# EAGLE library part WG240128B (library glcd_winstar_240x128_wg240128b)
GRAFIC LCD WINSTAR MODEL:WG240128B-TMI-VZ BACKLIGHT LED Number of Dots: [240 ×128 ]____ Module dimension144.0×104.0×14.3(MAX)mm___ View area: 114.0×64.0mm___ Active area: 107.98×57.58mm___ Character size: (L)0.43×(W)0.43 mm___ Character pitch: (L)0.45×(W)0.45mm___
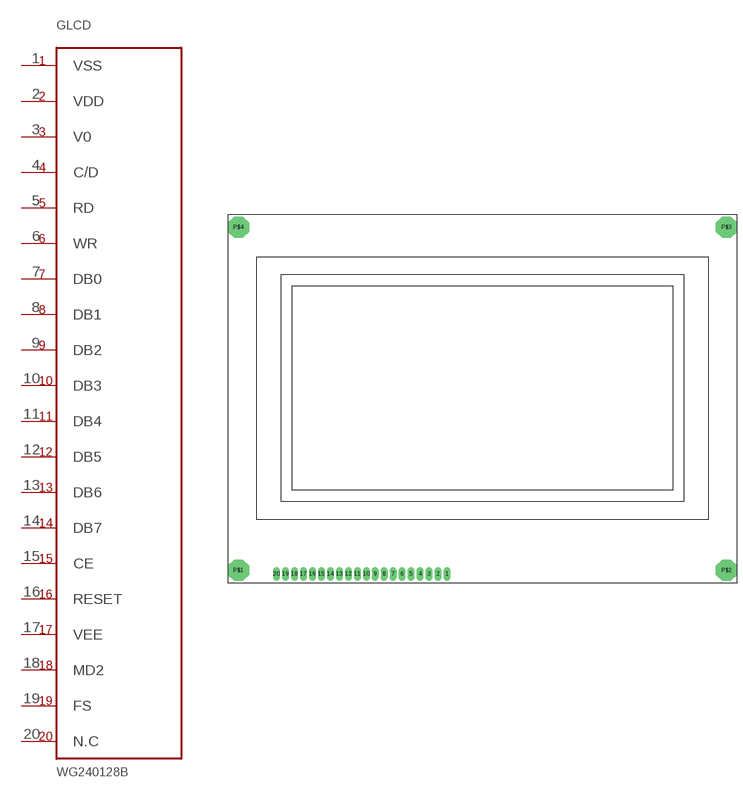
[diagram p0: symbol with the pads of WG240128B; footprint WG240128B]

Designator prefix GLCD

## WG240128B  [WG240128B]
1  VSS
2  VDD
3  V0
4  C/D
5  RD
6  WR
7  DB0
8  DB1
9  DB2
10  DB3
11  DB4
12  DB5
13  DB6
14  DB7
15  CE
16  RESET
17  VEE
18  MD2
19  FS
20  N.C

## Footprint WG240128B (pad centres in mm)
drill 1 pad 2 long: 1 62,2.5; 2 59.46,2.5; 3 56.92,2.5; 4 54.38,2.5; 5 51.84,2.5; 6 49.3,2.5; 7 46.76,2.5; 8 44.22,2.5; 9 41.68,2.5; 10 39.14,2.5; 11 36.6,2.5; 12 34.06,2.5; 13 31.52,2.5; 14 28.98,2.5; 15 26.44,2.5; 16 23.9,2.5; 17 21.36,2.5; 18 18.82,2.5; 19 16.28,2.5; 20 13.74,2.5
drill 3.5 pad 6 octagon: P$1 3,3.5; P$2 141,3.5; P$3 141,100.5; P$4 3,100.5